# Altium footprint library 遥控器件封装库.PcbLib: 19 footprints (part 1 of 2)
Each footprint in its own frame and in the unit in brackets; x right, y up, seen from the top. Pads: shape width x height; smd on the part's side, far side on the other; paste and mask are expansions set on the pad; w line width, h text height; cw(c..) or ccw(c..) is an arc to the next point about the centre after c.
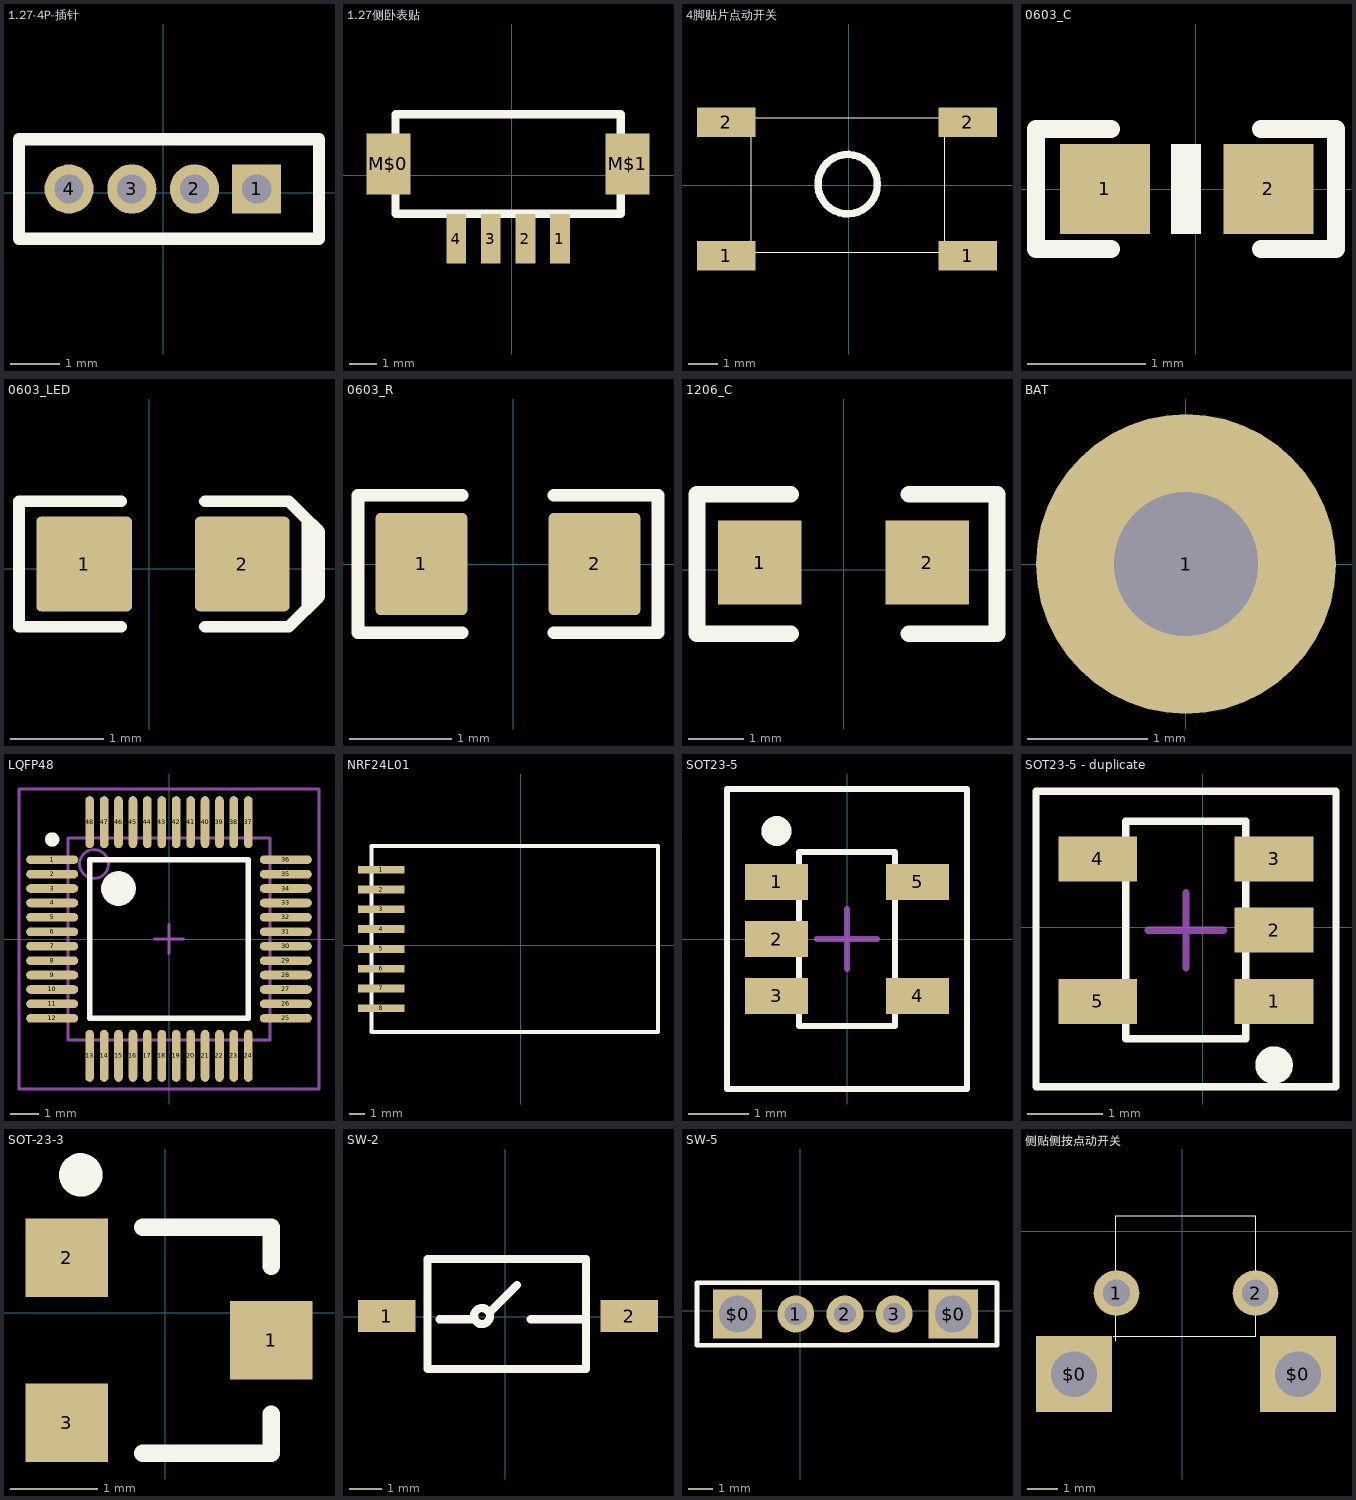
[diagram p0: the footprints below, top view; thin cyan lines are the x and y axes]

## 1.27-4P-插针 [mm]
pads (4):
  rect 1x1.009 hole 0.6: 1(1.905,0.076)
  oval 1x1.009 hole 0.6: 2(0.635,0.076) 3(-0.645,0.076)
  round 1 hole 0.6: 4(-1.925,0.076)
Top Overlay:
  lines w0.254: -2.946,-0.94 -1.448,-0.94 3.175,-0.94 3.175,1.092 -2.946,1.092 -2.946,-0.94

## 1.27侧卧表贴 [mil]
pads (6):
  rect 28x71 smd: 1(68.82,-91) 2(19.61,-91) 3(-30,-91) 4(-79,-91)
  rect 63x87 smd: M$0(-176,15.87) M$1(165.28,15.87)
Top Overlay:
  lines w12: -166,-55 -166,86.73 155.43,86.73 155.43,-55 -166,-55
  text "." at 131.81,-116 h155

## 4脚贴片点动开关 [mm]
pads (4):
  rect 2x1 smd: 1(-4.191,-2.413) 1(4.064,-2.413) 2(-4.191,2.159) 2(4.064,2.159)
Top Overlay:
  circle w0.254: c-0.04,0.039 r1.016
  lines w0.025: -3.487,2.312 3.271,2.312 3.271,-2.288 -3.329,-2.288 -3.329,2.4

## 0603_C [mil]
pads (2):
  rect 30x30 smd: 1(-30.25,0.1) 2(24.25,0.03)
Top Overlay:
  region: 1.77,-14.94 1.77,15.06 -8.23,15.06 -8.23,-14.94
  lines w6: -28.25,-19.97 -53.25,-19.97 -53.25,20.03 -28.25,20.03 ; 21.75,-19.97 46.75,-19.97 46.75,20.03 21.75,20.03
3D body: height 34.92, standoff -0.51, extent -36.46,-17.65 30.47,17.79

## 0603_LED [mil]
pads (2):
  rrect10% 40.5x40 smd: 1(-27.46,2)
  rrect10% 40x40 smd: 2(39.46,2)
Top Overlay:
  lines w5: -11.72,-24.57 -55.02,-24.57 -55.02,28.57 -11.72,28.57 ; 23.72,-24.57 59.15,-24.57 67.02,-16.7 67.02,20.7 59.15,28.57 23.72,28.57 ; 65.06,22.67 71.94,15.78 71.94,-11.78 66.04,-17.68
3D body: height 29.53, standoff 0, extent -25.49,-13.74 37.5,17.76

## 0603_R [mm]
pads (2):
  rrect10% 0.9x1 smd: 1(-0.901,0) 2(0.799,0)
Top Overlay:
  lines w0.127: -0.501,-0.675 -1.524,-0.675 -1.524,0.675 -0.501,0.675 ; 0.399,-0.675 1.422,-0.675 1.422,0.675 0.399,0.675
3D body: height 0.56, standoff 0, extent -0.901,-0.381 0.799,0.419

## 1206_C [mil]
pads (2):
  rect 60x60 smd: 1(-60,5) 2(60,5)
Top Overlay:
  lines w12: -38,-46 -105,-46 -105,54 -38,54 ; 47,-46 110,-46 110,54 47,54

## BAT [mm]
pads (1):
  round 2.5 hole 1.2: 1(0,0)

## LQFP48 [mm]
pads (48):
  oval 1.8x0.3 smd: 1(-4.05,2.75) 2(-4.05,2.25) 3(-4.05,1.75) 4(-4.05,1.25) 5(-4.05,0.75) 6(-4.05,0.25) 7(-4.05,-0.25) 8(-4.05,-0.75) 9(-4.05,-1.25) 10(-4.05,-1.75) 11(-4.05,-2.25) 12(-4.05,-2.75) 25(4.05,-2.75) 26(4.05,-2.25) 27(4.05,-1.75) 28(4.05,-1.25) 29(4.05,-0.75) 30(4.05,-0.25) 31(4.05,0.25) 32(4.05,0.75) 33(4.05,1.25) 34(4.05,1.75) 35(4.05,2.25) 36(4.05,2.75)
  oval 0.3x1.8 smd: 13(-2.75,-4.05) 14(-2.25,-4.05) 15(-1.75,-4.05) 16(-1.25,-4.05) 17(-0.75,-4.05) 18(-0.25,-4.05) 19(0.25,-4.05) 20(0.75,-4.05) 21(1.25,-4.05) 22(1.75,-4.05) 23(2.25,-4.05) 24(2.75,-4.05) 37(2.75,4.05) 38(2.25,4.05) 39(1.75,4.05) 40(1.25,4.05) 41(0.75,4.05) 42(0.25,4.05) 43(-0.25,4.05) 44(-0.75,4.05) 45(-1.25,4.05) 46(-1.75,4.05) 47(-2.25,4.05) 48(-2.75,4.05)
Top Overlay:
  circle w0.25: c-4.05,3.45 r0.125
  circle w0.6: c-1.75,1.75 r0.3
  lines w0.2: -2.75,-2.75 -2.75,2.75 2.75,2.75 2.75,-2.75 -2.75,-2.75
Mechanical 13:
  circle w0.1: c-2.6,2.6 r0.5
  lines w0.1: -3.5,-3.5 -3.5,3.5 3.5,3.5 3.5,-3.5 -3.5,-3.5
Mechanical 15:
  lines w0.1: -0.5,0 0.5,0 ; 0,-0.5 0,0.5 ; -5.2,-5.2 -5.2,5.2 5.2,5.2 5.2,-5.2 -5.2,-5.2
3D body: height 1.6, standoff 0, extent -3.5,-3.5 3.5,3.5

## NRF24L01 [mm]
pads (8):
  rect 3x0.5 smd: 1(-8.963,4.835) 2(-8.963,3.565) 3(-8.963,2.295) 4(-8.963,1.025) 5(-8.963,-0.245) 6(-8.963,-1.515) 7(-8.963,-2.785) 8(-8.963,-4.055)
Top Overlay:
  lines w0.254: -9.598,-5.579 8.817,-5.579 8.817,6.359 -9.598,6.359 -9.598,-5.579

## SOT23-5 [mm] "SOT23, 5-Leads, Body 2.9x2.8mm (max), Pitch 0.95mm, IPC Medium Den"
height 1.45
pads (5):
  rect 1.05x0.6 smd: 1(-1.175,0.95) 2(-1.175,0) 3(-1.175,-0.95) 4(1.175,-0.95) 5(1.175,0.95)
Top Overlay:
  circle w0.25: c-1.175,1.8 r0.125
  lines w0.1: -2,-2.5 -2,2.5 2,2.5 2,-2.5 -2,-2.5 ; -0.8,-1.45 0.8,-1.45 0.8,1.45 -0.8,1.45 -0.8,-1.45
Mechanical 15:
  lines w0.1: -0.5,0 0.5,0 ; 0,-0.5 0,0.5

## SOT23-5 - duplicate [mm]
pads (5):
  rect 1.05x0.6 smd: 1(0.951,-0.989) 2(0.951,-0.039) 3(0.951,0.911) 4(-1.399,0.911) 5(-1.399,-0.989)
Top Overlay:
  circle w0.25: c0.951,-1.839 r0.125
  lines w0.1: -2.224,-2.127 1.776,-2.127 1.776,1.81 -2.224,1.81 -2.224,-2.127 ; -1.024,-1.489 -1.024,1.411 0.576,1.411 0.576,-1.489 -1.024,-1.489
Mechanical 15:
  lines w0.1: -0.724,-0.039 0.276,-0.039 ; -0.224,-0.539 -0.224,0.461
3D body: height 1.45, standoff 0.01, extent -1.839,-1.566 1.361,1.534

## SOT-23-3 [mm]
pads (3):
  rect 0.95x0.9 smd: 1(1.216,-0.315) 2(-1.134,0.635) 3(-1.134,-1.265)
Top Overlay:
  circle w0.25: c-0.975,1.588 r0.125
  lines w0.2: -0.259,-1.615 1.216,-1.615 1.216,-1.165 ; -0.259,0.985 1.216,0.985 1.216,0.535

## SW-2 [mm]
pads (2):
  rect 1.8x1 smd: 1(-3.701,0.02) 2(3.868,0.02)
Top Overlay:
  circle w0.254: c-0.729,0.02 r0.25
  lines w0.254: -2.05,-0.081 -1.161,-0.081 -0.958,-0.081 ; -0.479,0.093 -0.479,0.02 -0.479,0.144 0.363,0.986 ; 0.795,-0.081 2.395,-0.081 ; -2.431,-1.631 -2.431,1.798 2.522,1.798 2.522,-1.631 -2.431,-1.631
3D body: height 8.02, standoff -0.98, extent -3.891,-1.707 4.109,1.793

## SW-5 [mm]
pads (5):
  round 1.5 hole 0.9: 1(-0.177,-0.127) 2(1.823,-0.127) 3(3.823,-0.127)
  rect 2x2 hole 1.5: $0(-2.54,-0.127) $0(6.223,-0.127)
Top Overlay:
  lines w0.2: -4.191,-1.397 -4.191,1.143 8.001,1.143 8.001,-1.397 -4.191,-1.397

## 侧贴侧按点动开关 [mm]
pads (4):
  round 1.5 hole 0.9: 1(-2.159,-2.032) 2(2.413,-2.032)
  rect 2.5x2.5 hole 1.5: $0(-3.556,-4.699) $0(3.81,-4.699)
Top Overlay:
  lines w0.025: -2.273,-3.456 2.415,-3.456 2.415,0.508 -2.185,0.508 -2.185,-3.614